# EAGLE library part VERRUE_DSPIC (library Mes_uC)
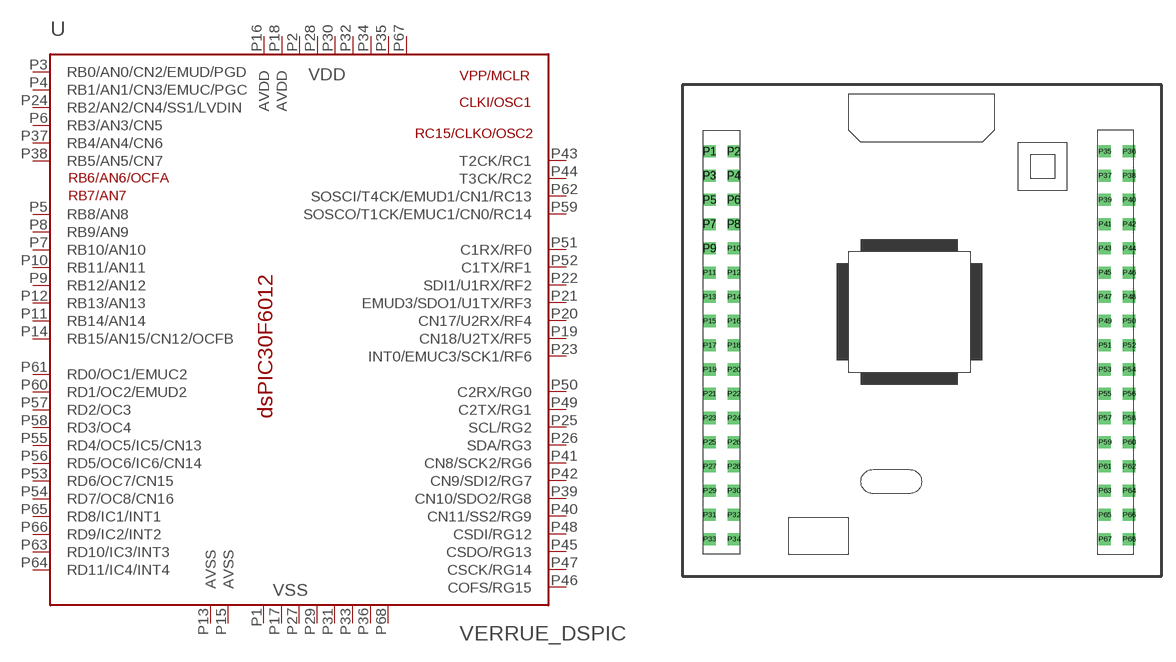
[diagram p6: symbol with the pads of VERRUE_DSPIC; footprint VERRUE_DSPIC]

Designator prefix U

## VERRUE_DSPIC  [VERRUE_DSPIC]
P1  VSS  pwr
P2  VDD  pwr
P3  RB0/AN0/CN2/EMUD/PGD
P4  RB1/AN1/CN3/EMUC/PGC
P5  RB8/AN8
P6  RB3/AN3/CN5
P7  RB10/AN10
P8  RB9/AN9
P9  RB12/AN12
P10  RB11/AN11
P11  RB14/AN14
P12  RB13/AN13
P13  AVSS  pwr
P14  RB15/AN15/CN12/OCFB
P15  AVSS  pwr
P16  AVDD  pwr
P17  VSS  pwr
P18  AVDD  pwr
P19  CN18/U2TX/RF5
P20  CN17/U2RX/RF4
P21  EMUD3/SDO1/U1TX/RF3
P22  SDI1/U1RX/RF2
P23  INT0/EMUC3/SCK1/RF6
P24  RB2/AN2/CN4/SS1/LVDIN
P25  SCL/RG2
P26  SDA/RG3
P27  VSS  pwr
P28  VDD  pwr
P29  VSS  pwr
P30  VDD  pwr
P31  VSS  pwr
P32  VDD  pwr
P33  VSS  pwr
P34  VDD  pwr
P35  VDD  pwr
P36  VSS  pwr
P37  RB4/AN4/CN6
P38  RB5/AN5/CN7
P39  CN10/SDO2/RG8
P40  CN11/SS2/RG9
P41  CN8/SCK2/RG6
P42  CN9/SDI2/RG7
P43  T2CK/RC1
P44  T3CK/RC2
P45  CSDO/RG13
P46  COFS/RG15
P47  CSCK/RG14
P48  CSDI/RG12
P49  C2TX/RG1
P50  C2RX/RG0
P51  C1RX/RF0
P52  C1TX/RF1
P53  RD6/OC7/CN15
P54  RD7/OC8/CN16
P55  RD4/OC5/IC5/CN13
P56  RD5/OC6/IC6/CN14
P57  RD2/OC3
P58  RD3/OC4
P59  SOSCO/T1CK/EMUC1/CN0/RC14
P60  RD1/OC2/EMUD2
P61  RD0/OC1/EMUC2
P62  SOSCI/T4CK/EMUD1/CN1/RC13
P63  RD10/IC3/INT3
P64  RD11/IC4/INT4
P65  RD8/IC1/INT1
P66  RD9/IC2/INT2
P67  VDD  pwr
P68  VSS  pwr

## Footprint VERRUE_DSPIC (pad centres in mm)
drill 0.6 pad 1.27 square: P1 -22.225,18.098; P2 -19.685,18.098; P3 -22.225,15.557; P4 -19.685,15.557; P5 -22.225,13.018; P6 -19.685,13.018; P7 -22.225,10.477; P8 -19.685,10.477; P9 -22.225,7.938; P10 -19.685,7.938; P11 -22.225,5.397; P12 -19.685,5.397; P13 -22.225,2.857; P14 -19.685,2.857; P15 -22.225,0.318; P16 -19.685,0.318; P17 -22.225,-2.223; P18 -19.685,-2.223; P19 -22.225,-4.763; P20 -19.685,-4.763; P21 -22.225,-7.303; P22 -19.685,-7.303; P23 -22.225,-9.842; P24 -19.685,-9.842; P25 -22.225,-12.383; P26 -19.685,-12.383; P27 -22.225,-14.922; P28 -19.685,-14.922; P29 -22.225,-17.462; P30 -19.685,-17.462; P31 -22.225,-20.003; P32 -19.685,-20.003; P33 -22.225,-22.543; P34 -19.685,-22.543; P35 19.209,18.098; P36 21.749,18.098; P37 19.209,15.557; P38 21.749,15.557; P39 19.209,13.018; P40 21.749,13.018; P41 19.209,10.477; P42 21.749,10.477; P43 19.209,7.938; P44 21.749,7.938; P45 19.209,5.397; P46 21.749,5.397; P47 19.209,2.857; P48 21.749,2.857; P49 19.209,0.318; P50 21.749,0.318; P51 19.209,-2.223; P52 21.749,-2.223; P53 19.209,-4.763; P54 21.749,-4.763; P55 19.209,-7.303; P56 21.749,-7.303; P57 19.209,-9.842; P58 21.749,-9.842; P59 19.209,-12.383; P60 21.749,-12.383; P61 19.209,-14.922; P62 21.749,-14.922; P63 19.209,-17.462; P64 21.749,-17.462; P65 19.209,-20.003; P66 21.749,-20.003; P67 19.209,-22.543; P68 21.749,-22.543